# Altium footprint library Connector_PinSocket_2.00mm.PcbLib: 278 footprints (part 13 of 18)
Each footprint in its own frame and in the unit in brackets; x right, y up, seen from the top. Pads: shape width x height; smd on the part's side, far side on the other; paste and mask are expansions set on the pad; w line width, h text height; cw(c..) or ccw(c..) is an arc to the next point about the centre after c.
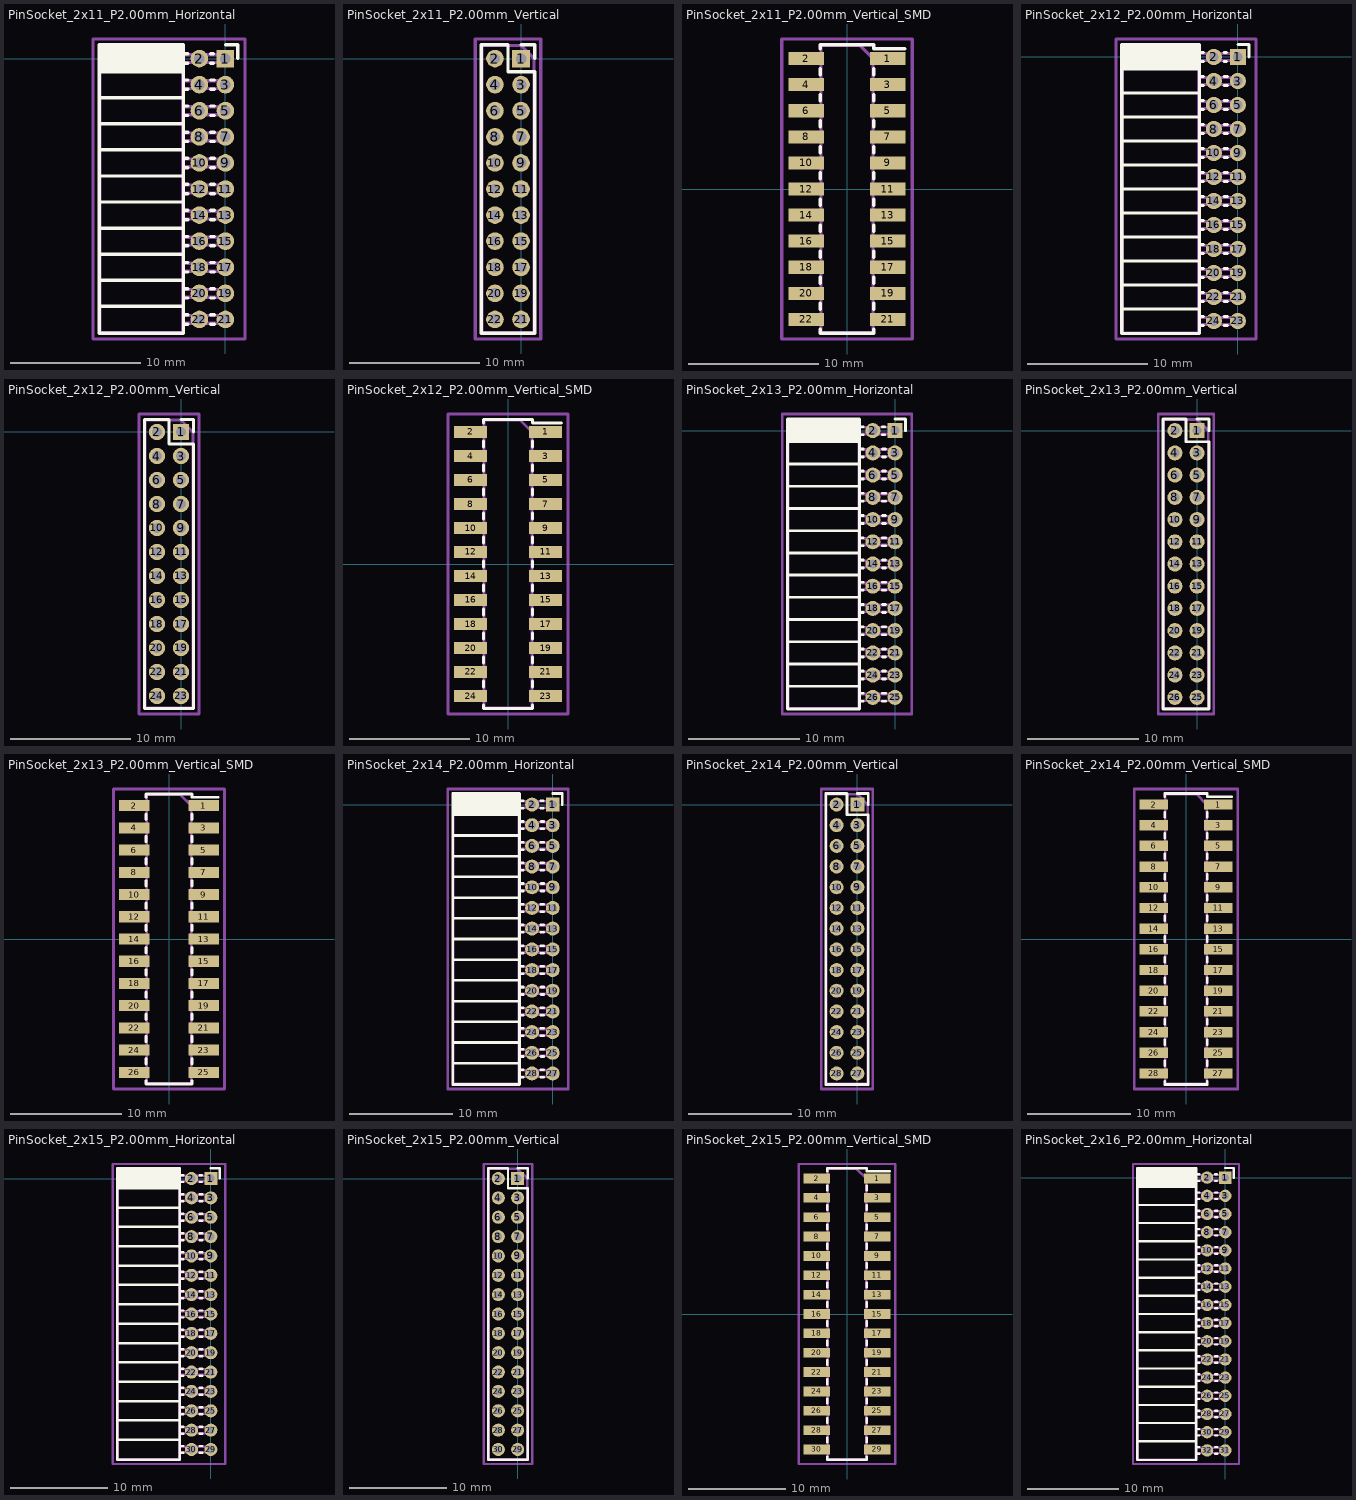
[diagram p12: the footprints below, top view; thin cyan lines are the x and y axes]

## PinSocket_2x11_P2.00mm_Horizontal [mm]
pads (22):
  rect 1.35x1.35 hole 0.8: 1(0,0)
  round 1.35 hole 0.8: 2(-2,0) 3(0,-2) 4(-2,-2) 5(0,-4) 6(-2,-4) 7(0,-6) 8(-2,-6) 9(0,-8) 10(-2,-8) 11(0,-10) 12(-2,-10) 13(0,-12) 14(-2,-12) 15(0,-14) 16(-2,-14) 17(0,-16) 18(-2,-16) 19(0,-18) 20(-2,-18) 21(0,-20) 22(-2,-20)
F.SilkS:
  lines w0.254: -9.68,-19 -3.21,-19 ; -9.68,-17 -3.21,-17 ; -9.68,-15 -3.21,-15 ; -9.68,-13 -3.21,-13 ; -9.68,-11 -3.21,-11 ; -9.68,-9 -3.21,-9 ; -9.68,-7 -3.21,-7 ; -9.68,-5 -3.21,-5 ; -9.68,-3 -3.21,-3 ; -9.68,-1 -3.21,-1 ; -9.68,-0.886 -3.21,-0.886 ; -9.68,-0.772 -3.21,-0.772 ; -9.68,-0.658 -3.21,-0.658 ; -9.68,-0.544 -3.21,-0.544 ; -9.68,-0.429 -3.21,-0.429 ; -9.68,-0.315 -3.21,-0.315 ; -9.68,-0.201 -3.21,-0.201 ; -9.68,-0.087 -3.21,-0.087 ; -9.68,0.027 -3.21,0.027 ; -9.68,0.141 -3.21,0.141 ; -9.68,0.255 -3.21,0.255 ; -9.68,0.369 -3.21,0.369 ; -9.68,0.484 -3.21,0.484 ; -9.68,0.598 -3.21,0.598 ; -9.68,0.712 -3.21,0.712 ; -9.68,0.826 -3.21,0.826 ; -9.68,0.94 -3.21,0.94 ; -3.21,-20.36 -2.863,-20.36 ; -3.21,-19.64 -2.863,-19.64 ; -3.21,-18.36 -2.863,-18.36 ; -3.21,-17.64 -2.863,-17.64 ; -3.21,-16.36 -2.863,-16.36 ; -3.21,-15.64 -2.863,-15.64 ; -3.21,-14.36 -2.863,-14.36 ; -3.21,-13.64 -2.863,-13.64 ; -3.21,-12.36 -2.863,-12.36 ; -3.21,-11.64 -2.863,-11.64 ; -3.21,-10.36 -2.863,-10.36 ; -3.21,-9.64 -2.863,-9.64 ; -3.21,-8.36 -2.863,-8.36 ; -3.21,-7.64 -2.863,-7.64 ; -3.21,-6.36 -2.863,-6.36 ; -3.21,-5.64 -2.863,-5.64 ; -3.21,-4.36 -2.863,-4.36 ; -3.21,-3.64 -2.863,-3.64 ; -3.21,-2.36 -2.863,-2.36 ; -3.21,-1.64 -2.863,-1.64 ; -3.21,-0.36 -2.863,-0.36 ; -3.21,0.36 -2.863,0.36 ; -1.137,-20.36 -0.863,-20.36 ; -1.137,-19.64 -0.863,-19.64 ; -1.137,-18.36 -0.863,-18.36 ; -1.137,-17.64 -0.863,-17.64 ; -1.137,-16.36 -0.863,-16.36 ; -1.137,-15.64 -0.863,-15.64 ; -1.137,-14.36 -0.863,-14.36 ; -1.137,-13.64 -0.863,-13.64 ; -1.137,-12.36 -0.863,-12.36 ; -1.137,-11.64 -0.863,-11.64 ; -1.137,-10.36 -0.863,-10.36 ; -1.137,-9.64 -0.863,-9.64 ; -1.137,-8.36 -0.863,-8.36 ; -1.137,-7.64 -0.863,-7.64 ; -1.137,-6.36 -0.863,-6.36 ; -1.137,-5.64 -0.863,-5.64 ; -1.137,-4.36 -0.863,-4.36 ; -1.137,-3.64 -0.863,-3.64 ; -1.137,-2.36 -0.863,-2.36 ; -1.137,-1.64 -0.863,-1.64 ; -1.137,-0.36 -0.935,-0.36 ; -1.137,0.36 -0.935,0.36 ; 0,1.06 0.935,1.06 0.935,0 ; -9.68,-21.06 -3.21,-21.06 -3.21,1.06 -9.68,1.06 -9.68,-21.06
Top Assembly:
  lines w0.254: -3.27,-20.3 0,-20.3 0,-19.7 -3.27,-19.7 ; -3.27,-18.3 0,-18.3 0,-17.7 -3.27,-17.7 ; -3.27,-16.3 0,-16.3 0,-15.7 -3.27,-15.7 ; -3.27,-14.3 0,-14.3 0,-13.7 -3.27,-13.7 ; -3.27,-12.3 0,-12.3 0,-11.7 -3.27,-11.7 ; -3.27,-10.3 0,-10.3 0,-9.7 -3.27,-9.7 ; -3.27,-8.3 0,-8.3 0,-7.7 -3.27,-7.7 ; -3.27,-6.3 0,-6.3 0,-5.7 -3.27,-5.7 ; -3.27,-4.3 0,-4.3 0,-3.7 -3.27,-3.7 ; -3.27,-2.3 0,-2.3 0,-1.7 -3.27,-1.7 ; -3.27,-0.3 0,-0.3 0,0.3 -3.27,0.3 ; -3.27,0.3 -3.27,-21 -9.62,-21 -9.62,1 -3.97,1 -3.27,0.3
  text "'.Designator'" at -5.605,-14.047 h1
Top Courtyard:
  lines w0.254: -10.15,-21.5 1.5,-21.5 1.5,1.5 -10.15,1.5 -10.15,-21.5
Top Designator:
  text ".Designator" at -11.943,-10.508 h1.52

## PinSocket_2x11_P2.00mm_Vertical [mm]
pads (22):
  rect 1.35x1.35 hole 0.8: 1(0,0)
  round 1.35 hole 0.8: 2(-2,0) 3(0,-2) 4(-2,-2) 5(0,-4) 6(-2,-4) 7(0,-6) 8(-2,-6) 9(0,-8) 10(-2,-8) 11(0,-10) 12(-2,-10) 13(0,-12) 14(-2,-12) 15(0,-14) 16(-2,-14) 17(0,-16) 18(-2,-16) 19(0,-18) 20(-2,-18) 21(0,-20) 22(-2,-20)
F.SilkS:
  lines w0.254: 0,1.06 1.06,1.06 1.06,0 ; -3.06,-21.06 1.06,-21.06 1.06,-1 -1,-1 -1,1.06 -3.06,1.06 -3.06,-21.06
Top Assembly:
  lines w0.254: -3,-21 1,-21 1,0 0,1 -3,1 -3,-21
  text "'.Designator'" at -0.16,-14.047 h1
Top Courtyard:
  lines w0.254: -3.5,-21.5 1.5,-21.5 1.5,1.5 -3.5,1.5 -3.5,-21.5
Top Designator:
  text ".Designator" at -8.618,-10.508 h1.52

## PinSocket_2x11_P2.00mm_Vertical_SMD [mm]
pads (22):
  rect 2.75x1 smd: 1(3.125,10) 2(-3.125,10) 3(3.125,8) 4(-3.125,8) 5(3.125,6) 6(-3.125,6) 7(3.125,4) 8(-3.125,4) 9(3.125,2) 10(-3.125,2) 11(3.125,0) 12(-3.125,0) 13(3.125,-2) 14(-3.125,-2) 15(3.125,-4) 16(-3.125,-4) 17(3.125,-6) 18(-3.125,-6) 19(3.125,-8) 20(-3.125,-8) 21(3.125,-10) 22(-3.125,-10)
F.SilkS:
  lines w0.254: -2.06,-10.76 -2.06,-11.06 2.06,-11.06 2.06,-10.76 ; -2.06,-9.24 -2.06,-8.76 ; -2.06,-7.24 -2.06,-6.76 ; -2.06,-5.24 -2.06,-4.76 ; -2.06,-3.24 -2.06,-2.76 ; -2.06,-1.24 -2.06,-0.76 ; -2.06,0.76 -2.06,1.24 ; -2.06,2.76 -2.06,3.24 ; -2.06,4.76 -2.06,5.24 ; -2.06,6.76 -2.06,7.24 ; -2.06,8.76 -2.06,9.24 ; -2.06,10.76 -2.06,11.06 2.06,11.06 2.06,10.76 4.44,10.76 ; 2.06,-9.24 2.06,-8.76 ; 2.06,-7.24 2.06,-6.76 ; 2.06,-5.24 2.06,-4.76 ; 2.06,-3.24 2.06,-2.76 ; 2.06,-1.24 2.06,-0.76 ; 2.06,0.76 2.06,1.24 ; 2.06,2.76 2.06,3.24 ; 2.06,4.76 2.06,5.24 ; 2.06,6.76 2.06,7.24 ; 2.06,8.76 2.06,9.24
Top Assembly:
  lines w0.254: -2,-10.25 -3,-10.25 -3,-9.75 -2,-9.75 ; -2,-8.25 -3,-8.25 -3,-7.75 -2,-7.75 ; -2,-6.25 -3,-6.25 -3,-5.75 -2,-5.75 ; -2,-4.25 -3,-4.25 -3,-3.75 -2,-3.75 ; -2,-2.25 -3,-2.25 -3,-1.75 -2,-1.75 ; -2,-0.25 -3,-0.25 -3,0.25 -2,0.25 ; -2,1.75 -3,1.75 -3,2.25 -2,2.25 ; -2,3.75 -3,3.75 -3,4.25 -2,4.25 ; -2,5.75 -3,5.75 -3,6.25 -2,6.25 ; -2,7.75 -3,7.75 -3,8.25 -2,8.25 ; -2,9.75 -3,9.75 -3,10.25 -2,10.25 ; 2,-10.25 3,-10.25 3,-9.75 2,-9.75 ; 2,-8.25 3,-8.25 3,-7.75 2,-7.75 ; 2,-6.25 3,-6.25 3,-5.75 2,-5.75 ; 2,-4.25 3,-4.25 3,-3.75 2,-3.75 ; 2,-2.25 3,-2.25 3,-1.75 2,-1.75 ; 2,-0.25 3,-0.25 3,0.25 2,0.25 ; 2,1.75 3,1.75 3,2.25 2,2.25 ; 2,3.75 3,3.75 3,4.25 2,4.25 ; 2,5.75 3,5.75 3,6.25 2,6.25 ; 2,7.75 3,7.75 3,8.25 2,8.25 ; 2,9.75 3,9.75 3,10.25 2,10.25 ; -2,-11 2,-11 2,10 1,11 -2,11 -2,-11
  text "'.Designator'" at 0.84,-4.047 h1
Top Courtyard:
  lines w0.254: -5,-11.5 5,-11.5 5,11.5 -5,11.5 -5,-11.5
Top Designator:
  text ".Designator" at -7.618,-0.508 h1.52

## PinSocket_2x12_P2.00mm_Horizontal [mm]
pads (24):
  rect 1.35x1.35 hole 0.8: 1(0,0)
  round 1.35 hole 0.8: 2(-2,0) 3(0,-2) 4(-2,-2) 5(0,-4) 6(-2,-4) 7(0,-6) 8(-2,-6) 9(0,-8) 10(-2,-8) 11(0,-10) 12(-2,-10) 13(0,-12) 14(-2,-12) 15(0,-14) 16(-2,-14) 17(0,-16) 18(-2,-16) 19(0,-18) 20(-2,-18) 21(0,-20) 22(-2,-20) 23(0,-22) 24(-2,-22)
F.SilkS:
  lines w0.254: -9.68,-21 -3.21,-21 ; -9.68,-19 -3.21,-19 ; -9.68,-17 -3.21,-17 ; -9.68,-15 -3.21,-15 ; -9.68,-13 -3.21,-13 ; -9.68,-11 -3.21,-11 ; -9.68,-9 -3.21,-9 ; -9.68,-7 -3.21,-7 ; -9.68,-5 -3.21,-5 ; -9.68,-3 -3.21,-3 ; -9.68,-1 -3.21,-1 ; -9.68,-0.886 -3.21,-0.886 ; -9.68,-0.772 -3.21,-0.772 ; -9.68,-0.658 -3.21,-0.658 ; -9.68,-0.544 -3.21,-0.544 ; -9.68,-0.429 -3.21,-0.429 ; -9.68,-0.315 -3.21,-0.315 ; -9.68,-0.201 -3.21,-0.201 ; -9.68,-0.087 -3.21,-0.087 ; -9.68,0.027 -3.21,0.027 ; -9.68,0.141 -3.21,0.141 ; -9.68,0.255 -3.21,0.255 ; -9.68,0.369 -3.21,0.369 ; -9.68,0.484 -3.21,0.484 ; -9.68,0.598 -3.21,0.598 ; -9.68,0.712 -3.21,0.712 ; -9.68,0.826 -3.21,0.826 ; -9.68,0.94 -3.21,0.94 ; -3.21,-22.36 -2.863,-22.36 ; -3.21,-21.64 -2.863,-21.64 ; -3.21,-20.36 -2.863,-20.36 ; -3.21,-19.64 -2.863,-19.64 ; -3.21,-18.36 -2.863,-18.36 ; -3.21,-17.64 -2.863,-17.64 ; -3.21,-16.36 -2.863,-16.36 ; -3.21,-15.64 -2.863,-15.64 ; -3.21,-14.36 -2.863,-14.36 ; -3.21,-13.64 -2.863,-13.64 ; -3.21,-12.36 -2.863,-12.36 ; -3.21,-11.64 -2.863,-11.64 ; -3.21,-10.36 -2.863,-10.36 ; -3.21,-9.64 -2.863,-9.64 ; -3.21,-8.36 -2.863,-8.36 ; -3.21,-7.64 -2.863,-7.64 ; -3.21,-6.36 -2.863,-6.36 ; -3.21,-5.64 -2.863,-5.64 ; -3.21,-4.36 -2.863,-4.36 ; -3.21,-3.64 -2.863,-3.64 ; -3.21,-2.36 -2.863,-2.36 ; -3.21,-1.64 -2.863,-1.64 ; -3.21,-0.36 -2.863,-0.36 ; -3.21,0.36 -2.863,0.36 ; -1.137,-22.36 -0.863,-22.36 ; -1.137,-21.64 -0.863,-21.64 ; -1.137,-20.36 -0.863,-20.36 ; -1.137,-19.64 -0.863,-19.64 ; -1.137,-18.36 -0.863,-18.36 ; -1.137,-17.64 -0.863,-17.64 ; -1.137,-16.36 -0.863,-16.36 ; -1.137,-15.64 -0.863,-15.64 ; -1.137,-14.36 -0.863,-14.36 ; -1.137,-13.64 -0.863,-13.64 ; -1.137,-12.36 -0.863,-12.36 ; -1.137,-11.64 -0.863,-11.64 ; -1.137,-10.36 -0.863,-10.36 ; -1.137,-9.64 -0.863,-9.64 ; -1.137,-8.36 -0.863,-8.36 ; -1.137,-7.64 -0.863,-7.64 ; -1.137,-6.36 -0.863,-6.36 ; -1.137,-5.64 -0.863,-5.64 ; -1.137,-4.36 -0.863,-4.36 ; -1.137,-3.64 -0.863,-3.64 ; -1.137,-2.36 -0.863,-2.36 ; -1.137,-1.64 -0.863,-1.64 ; -1.137,-0.36 -0.935,-0.36 ; -1.137,0.36 -0.935,0.36 ; 0,1.06 0.935,1.06 0.935,0 ; -9.68,-23.06 -3.21,-23.06 -3.21,1.06 -9.68,1.06 -9.68,-23.06
Top Assembly:
  lines w0.254: -3.27,-22.3 0,-22.3 0,-21.7 -3.27,-21.7 ; -3.27,-20.3 0,-20.3 0,-19.7 -3.27,-19.7 ; -3.27,-18.3 0,-18.3 0,-17.7 -3.27,-17.7 ; -3.27,-16.3 0,-16.3 0,-15.7 -3.27,-15.7 ; -3.27,-14.3 0,-14.3 0,-13.7 -3.27,-13.7 ; -3.27,-12.3 0,-12.3 0,-11.7 -3.27,-11.7 ; -3.27,-10.3 0,-10.3 0,-9.7 -3.27,-9.7 ; -3.27,-8.3 0,-8.3 0,-7.7 -3.27,-7.7 ; -3.27,-6.3 0,-6.3 0,-5.7 -3.27,-5.7 ; -3.27,-4.3 0,-4.3 0,-3.7 -3.27,-3.7 ; -3.27,-2.3 0,-2.3 0,-1.7 -3.27,-1.7 ; -3.27,-0.3 0,-0.3 0,0.3 -3.27,0.3 ; -3.27,0.3 -3.27,-23 -9.62,-23 -9.62,1 -3.97,1 -3.27,0.3
  text "'.Designator'" at -5.605,-15.047 h1
Top Courtyard:
  lines w0.254: -10.15,-23.5 1.5,-23.5 1.5,1.5 -10.15,1.5 -10.15,-23.5
Top Designator:
  text ".Designator" at -11.943,-11.508 h1.52

## PinSocket_2x12_P2.00mm_Vertical [mm]
pads (24):
  rect 1.35x1.35 hole 0.8: 1(0,0)
  round 1.35 hole 0.8: 2(-2,0) 3(0,-2) 4(-2,-2) 5(0,-4) 6(-2,-4) 7(0,-6) 8(-2,-6) 9(0,-8) 10(-2,-8) 11(0,-10) 12(-2,-10) 13(0,-12) 14(-2,-12) 15(0,-14) 16(-2,-14) 17(0,-16) 18(-2,-16) 19(0,-18) 20(-2,-18) 21(0,-20) 22(-2,-20) 23(0,-22) 24(-2,-22)
F.SilkS:
  lines w0.254: 0,1.06 1.06,1.06 1.06,0 ; -3.06,-23.06 1.06,-23.06 1.06,-1 -1,-1 -1,1.06 -3.06,1.06 -3.06,-23.06
Top Assembly:
  lines w0.254: -3,-23 1,-23 1,0 0,1 -3,1 -3,-23
  text "'.Designator'" at -0.16,-15.047 h1
Top Courtyard:
  lines w0.254: -3.5,-23.5 1.5,-23.5 1.5,1.5 -3.5,1.5 -3.5,-23.5
Top Designator:
  text ".Designator" at -8.618,-11.508 h1.52

## PinSocket_2x12_P2.00mm_Vertical_SMD [mm]
pads (24):
  rect 2.75x1 smd: 1(3.125,11) 2(-3.125,11) 3(3.125,9) 4(-3.125,9) 5(3.125,7) 6(-3.125,7) 7(3.125,5) 8(-3.125,5) 9(3.125,3) 10(-3.125,3) 11(3.125,1) 12(-3.125,1) 13(3.125,-1) 14(-3.125,-1) 15(3.125,-3) 16(-3.125,-3) 17(3.125,-5) 18(-3.125,-5) 19(3.125,-7) 20(-3.125,-7) 21(3.125,-9) 22(-3.125,-9) 23(3.125,-11) 24(-3.125,-11)
F.SilkS:
  lines w0.254: -2.06,-11.76 -2.06,-12.06 2.06,-12.06 2.06,-11.76 ; -2.06,-10.24 -2.06,-9.76 ; -2.06,-8.24 -2.06,-7.76 ; -2.06,-6.24 -2.06,-5.76 ; -2.06,-4.24 -2.06,-3.76 ; -2.06,-2.24 -2.06,-1.76 ; -2.06,-0.24 -2.06,0.24 ; -2.06,1.76 -2.06,2.24 ; -2.06,3.76 -2.06,4.24 ; -2.06,5.76 -2.06,6.24 ; -2.06,7.76 -2.06,8.24 ; -2.06,9.76 -2.06,10.24 ; -2.06,11.76 -2.06,12.06 2.06,12.06 2.06,11.76 4.44,11.76 ; 2.06,-10.24 2.06,-9.76 ; 2.06,-8.24 2.06,-7.76 ; 2.06,-6.24 2.06,-5.76 ; 2.06,-4.24 2.06,-3.76 ; 2.06,-2.24 2.06,-1.76 ; 2.06,-0.24 2.06,0.24 ; 2.06,1.76 2.06,2.24 ; 2.06,3.76 2.06,4.24 ; 2.06,5.76 2.06,6.24 ; 2.06,7.76 2.06,8.24 ; 2.06,9.76 2.06,10.24
Top Assembly:
  lines w0.254: -2,-11.25 -3,-11.25 -3,-10.75 -2,-10.75 ; -2,-9.25 -3,-9.25 -3,-8.75 -2,-8.75 ; -2,-7.25 -3,-7.25 -3,-6.75 -2,-6.75 ; -2,-5.25 -3,-5.25 -3,-4.75 -2,-4.75 ; -2,-3.25 -3,-3.25 -3,-2.75 -2,-2.75 ; -2,-1.25 -3,-1.25 -3,-0.75 -2,-0.75 ; -2,0.75 -3,0.75 -3,1.25 -2,1.25 ; -2,2.75 -3,2.75 -3,3.25 -2,3.25 ; -2,4.75 -3,4.75 -3,5.25 -2,5.25 ; -2,6.75 -3,6.75 -3,7.25 -2,7.25 ; -2,8.75 -3,8.75 -3,9.25 -2,9.25 ; -2,10.75 -3,10.75 -3,11.25 -2,11.25 ; 2,-11.25 3,-11.25 3,-10.75 2,-10.75 ; 2,-9.25 3,-9.25 3,-8.75 2,-8.75 ; 2,-7.25 3,-7.25 3,-6.75 2,-6.75 ; 2,-5.25 3,-5.25 3,-4.75 2,-4.75 ; 2,-3.25 3,-3.25 3,-2.75 2,-2.75 ; 2,-1.25 3,-1.25 3,-0.75 2,-0.75 ; 2,0.75 3,0.75 3,1.25 2,1.25 ; 2,2.75 3,2.75 3,3.25 2,3.25 ; 2,4.75 3,4.75 3,5.25 2,5.25 ; 2,6.75 3,6.75 3,7.25 2,7.25 ; 2,8.75 3,8.75 3,9.25 2,9.25 ; 2,10.75 3,10.75 3,11.25 2,11.25 ; -2,-12 2,-12 2,11 1,12 -2,12 -2,-12
  text "'.Designator'" at 0.84,-4.047 h1
Top Courtyard:
  lines w0.254: -5,-12.5 5,-12.5 5,12.5 -5,12.5 -5,-12.5
Top Designator:
  text ".Designator" at -7.618,-0.508 h1.52

## PinSocket_2x13_P2.00mm_Horizontal [mm]
pads (26):
  rect 1.35x1.35 hole 0.8: 1(0,0)
  round 1.35 hole 0.8: 2(-2,0) 3(0,-2) 4(-2,-2) 5(0,-4) 6(-2,-4) 7(0,-6) 8(-2,-6) 9(0,-8) 10(-2,-8) 11(0,-10) 12(-2,-10) 13(0,-12) 14(-2,-12) 15(0,-14) 16(-2,-14) 17(0,-16) 18(-2,-16) 19(0,-18) 20(-2,-18) 21(0,-20) 22(-2,-20) 23(0,-22) 24(-2,-22) 25(0,-24) 26(-2,-24)
F.SilkS:
  lines w0.254: -9.68,-23 -3.21,-23 ; -9.68,-21 -3.21,-21 ; -9.68,-19 -3.21,-19 ; -9.68,-17 -3.21,-17 ; -9.68,-15 -3.21,-15 ; -9.68,-13 -3.21,-13 ; -9.68,-11 -3.21,-11 ; -9.68,-9 -3.21,-9 ; -9.68,-7 -3.21,-7 ; -9.68,-5 -3.21,-5 ; -9.68,-3 -3.21,-3 ; -9.68,-1 -3.21,-1 ; -9.68,-0.886 -3.21,-0.886 ; -9.68,-0.772 -3.21,-0.772 ; -9.68,-0.658 -3.21,-0.658 ; -9.68,-0.544 -3.21,-0.544 ; -9.68,-0.429 -3.21,-0.429 ; -9.68,-0.315 -3.21,-0.315 ; -9.68,-0.201 -3.21,-0.201 ; -9.68,-0.087 -3.21,-0.087 ; -9.68,0.027 -3.21,0.027 ; -9.68,0.141 -3.21,0.141 ; -9.68,0.255 -3.21,0.255 ; -9.68,0.369 -3.21,0.369 ; -9.68,0.484 -3.21,0.484 ; -9.68,0.598 -3.21,0.598 ; -9.68,0.712 -3.21,0.712 ; -9.68,0.826 -3.21,0.826 ; -9.68,0.94 -3.21,0.94 ; -3.21,-24.36 -2.863,-24.36 ; -3.21,-23.64 -2.863,-23.64 ; -3.21,-22.36 -2.863,-22.36 ; -3.21,-21.64 -2.863,-21.64 ; -3.21,-20.36 -2.863,-20.36 ; -3.21,-19.64 -2.863,-19.64 ; -3.21,-18.36 -2.863,-18.36 ; -3.21,-17.64 -2.863,-17.64 ; -3.21,-16.36 -2.863,-16.36 ; -3.21,-15.64 -2.863,-15.64 ; -3.21,-14.36 -2.863,-14.36 ; -3.21,-13.64 -2.863,-13.64 ; -3.21,-12.36 -2.863,-12.36 ; -3.21,-11.64 -2.863,-11.64 ; -3.21,-10.36 -2.863,-10.36 ; -3.21,-9.64 -2.863,-9.64 ; -3.21,-8.36 -2.863,-8.36 ; -3.21,-7.64 -2.863,-7.64 ; -3.21,-6.36 -2.863,-6.36 ; -3.21,-5.64 -2.863,-5.64 ; -3.21,-4.36 -2.863,-4.36 ; -3.21,-3.64 -2.863,-3.64 ; -3.21,-2.36 -2.863,-2.36 ; -3.21,-1.64 -2.863,-1.64 ; -3.21,-0.36 -2.863,-0.36 ; -3.21,0.36 -2.863,0.36 ; -1.137,-24.36 -0.863,-24.36 ; -1.137,-23.64 -0.863,-23.64 ; -1.137,-22.36 -0.863,-22.36 ; -1.137,-21.64 -0.863,-21.64 ; -1.137,-20.36 -0.863,-20.36 ; -1.137,-19.64 -0.863,-19.64 ; -1.137,-18.36 -0.863,-18.36 ; -1.137,-17.64 -0.863,-17.64 ; -1.137,-16.36 -0.863,-16.36 ; -1.137,-15.64 -0.863,-15.64 ; -1.137,-14.36 -0.863,-14.36 ; -1.137,-13.64 -0.863,-13.64 ; -1.137,-12.36 -0.863,-12.36 ; -1.137,-11.64 -0.863,-11.64 ; -1.137,-10.36 -0.863,-10.36 ; -1.137,-9.64 -0.863,-9.64 ; -1.137,-8.36 -0.863,-8.36 ; -1.137,-7.64 -0.863,-7.64 ; -1.137,-6.36 -0.863,-6.36 ; -1.137,-5.64 -0.863,-5.64 ; -1.137,-4.36 -0.863,-4.36 ; -1.137,-3.64 -0.863,-3.64 ; -1.137,-2.36 -0.863,-2.36 ; -1.137,-1.64 -0.863,-1.64 ; -1.137,-0.36 -0.935,-0.36 ; -1.137,0.36 -0.935,0.36 ; 0,1.06 0.935,1.06 0.935,0 ; -9.68,-25.06 -3.21,-25.06 -3.21,1.06 -9.68,1.06 -9.68,-25.06
Top Assembly:
  lines w0.254: -3.27,-24.3 0,-24.3 0,-23.7 -3.27,-23.7 ; -3.27,-22.3 0,-22.3 0,-21.7 -3.27,-21.7 ; -3.27,-20.3 0,-20.3 0,-19.7 -3.27,-19.7 ; -3.27,-18.3 0,-18.3 0,-17.7 -3.27,-17.7 ; -3.27,-16.3 0,-16.3 0,-15.7 -3.27,-15.7 ; -3.27,-14.3 0,-14.3 0,-13.7 -3.27,-13.7 ; -3.27,-12.3 0,-12.3 0,-11.7 -3.27,-11.7 ; -3.27,-10.3 0,-10.3 0,-9.7 -3.27,-9.7 ; -3.27,-8.3 0,-8.3 0,-7.7 -3.27,-7.7 ; -3.27,-6.3 0,-6.3 0,-5.7 -3.27,-5.7 ; -3.27,-4.3 0,-4.3 0,-3.7 -3.27,-3.7 ; -3.27,-2.3 0,-2.3 0,-1.7 -3.27,-1.7 ; -3.27,-0.3 0,-0.3 0,0.3 -3.27,0.3 ; -3.27,0.3 -3.27,-25 -9.62,-25 -9.62,1 -3.97,1 -3.27,0.3
  text "'.Designator'" at -5.605,-16.047 h1
Top Courtyard:
  lines w0.254: -10.15,-25.5 1.5,-25.5 1.5,1.5 -10.15,1.5 -10.15,-25.5
Top Designator:
  text ".Designator" at -11.943,-12.508 h1.52

## PinSocket_2x13_P2.00mm_Vertical [mm]
pads (26):
  rect 1.35x1.35 hole 0.8: 1(0,0)
  round 1.35 hole 0.8: 2(-2,0) 3(0,-2) 4(-2,-2) 5(0,-4) 6(-2,-4) 7(0,-6) 8(-2,-6) 9(0,-8) 10(-2,-8) 11(0,-10) 12(-2,-10) 13(0,-12) 14(-2,-12) 15(0,-14) 16(-2,-14) 17(0,-16) 18(-2,-16) 19(0,-18) 20(-2,-18) 21(0,-20) 22(-2,-20) 23(0,-22) 24(-2,-22) 25(0,-24) 26(-2,-24)
F.SilkS:
  lines w0.254: 0,1.06 1.06,1.06 1.06,0 ; -3.06,-25.06 1.06,-25.06 1.06,-1 -1,-1 -1,1.06 -3.06,1.06 -3.06,-25.06
Top Assembly:
  lines w0.254: -3,-25 1,-25 1,0 0,1 -3,1 -3,-25
  text "'.Designator'" at -0.16,-16.047 h1
Top Courtyard:
  lines w0.254: -3.5,-25.5 1.5,-25.5 1.5,1.5 -3.5,1.5 -3.5,-25.5
Top Designator:
  text ".Designator" at -8.618,-12.508 h1.52

## PinSocket_2x13_P2.00mm_Vertical_SMD [mm]
pads (26):
  rect 2.75x1 smd: 1(3.125,12) 2(-3.125,12) 3(3.125,10) 4(-3.125,10) 5(3.125,8) 6(-3.125,8) 7(3.125,6) 8(-3.125,6) 9(3.125,4) 10(-3.125,4) 11(3.125,2) 12(-3.125,2) 13(3.125,0) 14(-3.125,0) 15(3.125,-2) 16(-3.125,-2) 17(3.125,-4) 18(-3.125,-4) 19(3.125,-6) 20(-3.125,-6) 21(3.125,-8) 22(-3.125,-8) 23(3.125,-10) 24(-3.125,-10) 25(3.125,-12) 26(-3.125,-12)
F.SilkS:
  lines w0.254: -2.06,-12.76 -2.06,-13.06 2.06,-13.06 2.06,-12.76 ; -2.06,-11.24 -2.06,-10.76 ; -2.06,-9.24 -2.06,-8.76 ; -2.06,-7.24 -2.06,-6.76 ; -2.06,-5.24 -2.06,-4.76 ; -2.06,-3.24 -2.06,-2.76 ; -2.06,-1.24 -2.06,-0.76 ; -2.06,0.76 -2.06,1.24 ; -2.06,2.76 -2.06,3.24 ; -2.06,4.76 -2.06,5.24 ; -2.06,6.76 -2.06,7.24 ; -2.06,8.76 -2.06,9.24 ; -2.06,10.76 -2.06,11.24 ; -2.06,12.76 -2.06,13.06 2.06,13.06 2.06,12.76 4.44,12.76 ; 2.06,-11.24 2.06,-10.76 ; 2.06,-9.24 2.06,-8.76 ; 2.06,-7.24 2.06,-6.76 ; 2.06,-5.24 2.06,-4.76 ; 2.06,-3.24 2.06,-2.76 ; 2.06,-1.24 2.06,-0.76 ; 2.06,0.76 2.06,1.24 ; 2.06,2.76 2.06,3.24 ; 2.06,4.76 2.06,5.24 ; 2.06,6.76 2.06,7.24 ; 2.06,8.76 2.06,9.24 ; 2.06,10.76 2.06,11.24
Top Assembly:
  lines w0.254: -2,-12.25 -3,-12.25 -3,-11.75 -2,-11.75 ; -2,-10.25 -3,-10.25 -3,-9.75 -2,-9.75 ; -2,-8.25 -3,-8.25 -3,-7.75 -2,-7.75 ; -2,-6.25 -3,-6.25 -3,-5.75 -2,-5.75 ; -2,-4.25 -3,-4.25 -3,-3.75 -2,-3.75 ; -2,-2.25 -3,-2.25 -3,-1.75 -2,-1.75 ; -2,-0.25 -3,-0.25 -3,0.25 -2,0.25 ; -2,1.75 -3,1.75 -3,2.25 -2,2.25 ; -2,3.75 -3,3.75 -3,4.25 -2,4.25 ; -2,5.75 -3,5.75 -3,6.25 -2,6.25 ; -2,7.75 -3,7.75 -3,8.25 -2,8.25 ; -2,9.75 -3,9.75 -3,10.25 -2,10.25 ; -2,11.75 -3,11.75 -3,12.25 -2,12.25 ; 2,-12.25 3,-12.25 3,-11.75 2,-11.75 ; 2,-10.25 3,-10.25 3,-9.75 2,-9.75 ; 2,-8.25 3,-8.25 3,-7.75 2,-7.75 ; 2,-6.25 3,-6.25 3,-5.75 2,-5.75 ; 2,-4.25 3,-4.25 3,-3.75 2,-3.75 ; 2,-2.25 3,-2.25 3,-1.75 2,-1.75 ; 2,-0.25 3,-0.25 3,0.25 2,0.25 ; 2,1.75 3,1.75 3,2.25 2,2.25 ; 2,3.75 3,3.75 3,4.25 2,4.25 ; 2,5.75 3,5.75 3,6.25 2,6.25 ; 2,7.75 3,7.75 3,8.25 2,8.25 ; 2,9.75 3,9.75 3,10.25 2,10.25 ; 2,11.75 3,11.75 3,12.25 2,12.25 ; -2,-13 2,-13 2,12 1,13 -2,13 -2,-13
  text "'.Designator'" at 0.84,-4.047 h1
Top Courtyard:
  lines w0.254: -5,-13.5 5,-13.5 5,13.5 -5,13.5 -5,-13.5
Top Designator:
  text ".Designator" at -7.618,-0.508 h1.52

## PinSocket_2x14_P2.00mm_Horizontal [mm]
pads (28):
  rect 1.35x1.35 hole 0.8: 1(0,0)
  round 1.35 hole 0.8: 2(-2,0) 3(0,-2) 4(-2,-2) 5(0,-4) 6(-2,-4) 7(0,-6) 8(-2,-6) 9(0,-8) 10(-2,-8) 11(0,-10) 12(-2,-10) 13(0,-12) 14(-2,-12) 15(0,-14) 16(-2,-14) 17(0,-16) 18(-2,-16) 19(0,-18) 20(-2,-18) 21(0,-20) 22(-2,-20) 23(0,-22) 24(-2,-22) 25(0,-24) 26(-2,-24) 27(0,-26) 28(-2,-26)
F.SilkS:
  lines w0.254: -9.68,-25 -3.21,-25 ; -9.68,-23 -3.21,-23 ; -9.68,-21 -3.21,-21 ; -9.68,-19 -3.21,-19 ; -9.68,-17 -3.21,-17 ; -9.68,-15 -3.21,-15 ; -9.68,-13 -3.21,-13 ; -9.68,-11 -3.21,-11 ; -9.68,-9 -3.21,-9 ; -9.68,-7 -3.21,-7 ; -9.68,-5 -3.21,-5 ; -9.68,-3 -3.21,-3 ; -9.68,-1 -3.21,-1 ; -9.68,-0.886 -3.21,-0.886 ; -9.68,-0.772 -3.21,-0.772 ; -9.68,-0.658 -3.21,-0.658 ; -9.68,-0.544 -3.21,-0.544 ; -9.68,-0.429 -3.21,-0.429 ; -9.68,-0.315 -3.21,-0.315 ; -9.68,-0.201 -3.21,-0.201 ; -9.68,-0.087 -3.21,-0.087 ; -9.68,0.027 -3.21,0.027 ; -9.68,0.141 -3.21,0.141 ; -9.68,0.255 -3.21,0.255 ; -9.68,0.369 -3.21,0.369 ; -9.68,0.484 -3.21,0.484 ; -9.68,0.598 -3.21,0.598 ; -9.68,0.712 -3.21,0.712 ; -9.68,0.826 -3.21,0.826 ; -9.68,0.94 -3.21,0.94 ; -3.21,-26.36 -2.863,-26.36 ; -3.21,-25.64 -2.863,-25.64 ; -3.21,-24.36 -2.863,-24.36 ; -3.21,-23.64 -2.863,-23.64 ; -3.21,-22.36 -2.863,-22.36 ; -3.21,-21.64 -2.863,-21.64 ; -3.21,-20.36 -2.863,-20.36 ; -3.21,-19.64 -2.863,-19.64 ; -3.21,-18.36 -2.863,-18.36 ; -3.21,-17.64 -2.863,-17.64 ; -3.21,-16.36 -2.863,-16.36 ; -3.21,-15.64 -2.863,-15.64 ; -3.21,-14.36 -2.863,-14.36 ; -3.21,-13.64 -2.863,-13.64 ; -3.21,-12.36 -2.863,-12.36 ; -3.21,-11.64 -2.863,-11.64 ; -3.21,-10.36 -2.863,-10.36 ; -3.21,-9.64 -2.863,-9.64 ; -3.21,-8.36 -2.863,-8.36 ; -3.21,-7.64 -2.863,-7.64 ; -3.21,-6.36 -2.863,-6.36 ; -3.21,-5.64 -2.863,-5.64 ; -3.21,-4.36 -2.863,-4.36 ; -3.21,-3.64 -2.863,-3.64 ; -3.21,-2.36 -2.863,-2.36 ; -3.21,-1.64 -2.863,-1.64 ; -3.21,-0.36 -2.863,-0.36 ; -3.21,0.36 -2.863,0.36 ; -1.137,-26.36 -0.863,-26.36 ; -1.137,-25.64 -0.863,-25.64 ; -1.137,-24.36 -0.863,-24.36 ; -1.137,-23.64 -0.863,-23.64 ; -1.137,-22.36 -0.863,-22.36 ; -1.137,-21.64 -0.863,-21.64 ; -1.137,-20.36 -0.863,-20.36 ; -1.137,-19.64 -0.863,-19.64 ; -1.137,-18.36 -0.863,-18.36 ; -1.137,-17.64 -0.863,-17.64 ; -1.137,-16.36 -0.863,-16.36 ; -1.137,-15.64 -0.863,-15.64 ; -1.137,-14.36 -0.863,-14.36 ; -1.137,-13.64 -0.863,-13.64 ; -1.137,-12.36 -0.863,-12.36 ; -1.137,-11.64 -0.863,-11.64 ; -1.137,-10.36 -0.863,-10.36 ; -1.137,-9.64 -0.863,-9.64 ; -1.137,-8.36 -0.863,-8.36 ; -1.137,-7.64 -0.863,-7.64 ; -1.137,-6.36 -0.863,-6.36 ; -1.137,-5.64 -0.863,-5.64 ; -1.137,-4.36 -0.863,-4.36 ; -1.137,-3.64 -0.863,-3.64 ; -1.137,-2.36 -0.863,-2.36 ; -1.137,-1.64 -0.863,-1.64 ; -1.137,-0.36 -0.935,-0.36 ; -1.137,0.36 -0.935,0.36 ; 0,1.06 0.935,1.06 0.935,0 ; -9.68,-27.06 -3.21,-27.06 -3.21,1.06 -9.68,1.06 -9.68,-27.06
Top Assembly:
  lines w0.254: -3.27,-26.3 0,-26.3 0,-25.7 -3.27,-25.7 ; -3.27,-24.3 0,-24.3 0,-23.7 -3.27,-23.7 ; -3.27,-22.3 0,-22.3 0,-21.7 -3.27,-21.7 ; -3.27,-20.3 0,-20.3 0,-19.7 -3.27,-19.7 ; -3.27,-18.3 0,-18.3 0,-17.7 -3.27,-17.7 ; -3.27,-16.3 0,-16.3 0,-15.7 -3.27,-15.7 ; -3.27,-14.3 0,-14.3 0,-13.7 -3.27,-13.7 ; -3.27,-12.3 0,-12.3 0,-11.7 -3.27,-11.7 ; -3.27,-10.3 0,-10.3 0,-9.7 -3.27,-9.7 ; -3.27,-8.3 0,-8.3 0,-7.7 -3.27,-7.7 ; -3.27,-6.3 0,-6.3 0,-5.7 -3.27,-5.7 ; -3.27,-4.3 0,-4.3 0,-3.7 -3.27,-3.7 ; -3.27,-2.3 0,-2.3 0,-1.7 -3.27,-1.7 ; -3.27,-0.3 0,-0.3 0,0.3 -3.27,0.3 ; -3.27,0.3 -3.27,-27 -9.62,-27 -9.62,1 -3.97,1 -3.27,0.3
  text "'.Designator'" at -5.605,-17.047 h1
Top Courtyard:
  lines w0.254: -10.15,-27.5 1.5,-27.5 1.5,1.5 -10.15,1.5 -10.15,-27.5
Top Designator:
  text ".Designator" at -11.943,-13.508 h1.52

## PinSocket_2x14_P2.00mm_Vertical [mm]
pads (28):
  rect 1.35x1.35 hole 0.8: 1(0,0)
  round 1.35 hole 0.8: 2(-2,0) 3(0,-2) 4(-2,-2) 5(0,-4) 6(-2,-4) 7(0,-6) 8(-2,-6) 9(0,-8) 10(-2,-8) 11(0,-10) 12(-2,-10) 13(0,-12) 14(-2,-12) 15(0,-14) 16(-2,-14) 17(0,-16) 18(-2,-16) 19(0,-18) 20(-2,-18) 21(0,-20) 22(-2,-20) 23(0,-22) 24(-2,-22) 25(0,-24) 26(-2,-24) 27(0,-26) 28(-2,-26)
F.SilkS:
  lines w0.254: 0,1.06 1.06,1.06 1.06,0 ; -3.06,-27.06 1.06,-27.06 1.06,-1 -1,-1 -1,1.06 -3.06,1.06 -3.06,-27.06
Top Assembly:
  lines w0.254: -3,-27 1,-27 1,0 0,1 -3,1 -3,-27
  text "'.Designator'" at -0.16,-17.047 h1
Top Courtyard:
  lines w0.254: -3.5,-27.5 1.5,-27.5 1.5,1.5 -3.5,1.5 -3.5,-27.5
Top Designator:
  text ".Designator" at -8.618,-13.508 h1.52

## PinSocket_2x14_P2.00mm_Vertical_SMD [mm]
pads (28):
  rect 2.75x1 smd: 1(3.125,13) 2(-3.125,13) 3(3.125,11) 4(-3.125,11) 5(3.125,9) 6(-3.125,9) 7(3.125,7) 8(-3.125,7) 9(3.125,5) 10(-3.125,5) 11(3.125,3) 12(-3.125,3) 13(3.125,1) 14(-3.125,1) 15(3.125,-1) 16(-3.125,-1) 17(3.125,-3) 18(-3.125,-3) 19(3.125,-5) 20(-3.125,-5) 21(3.125,-7) 22(-3.125,-7) 23(3.125,-9) 24(-3.125,-9) 25(3.125,-11) 26(-3.125,-11) 27(3.125,-13) 28(-3.125,-13)
F.SilkS:
  lines w0.254: -2.06,-13.76 -2.06,-14.06 2.06,-14.06 2.06,-13.76 ; -2.06,-12.24 -2.06,-11.76 ; -2.06,-10.24 -2.06,-9.76 ; -2.06,-8.24 -2.06,-7.76 ; -2.06,-6.24 -2.06,-5.76 ; -2.06,-4.24 -2.06,-3.76 ; -2.06,-2.24 -2.06,-1.76 ; -2.06,-0.24 -2.06,0.24 ; -2.06,1.76 -2.06,2.24 ; -2.06,3.76 -2.06,4.24 ; -2.06,5.76 -2.06,6.24 ; -2.06,7.76 -2.06,8.24 ; -2.06,9.76 -2.06,10.24 ; -2.06,11.76 -2.06,12.24 ; -2.06,13.76 -2.06,14.06 2.06,14.06 2.06,13.76 4.44,13.76 ; 2.06,-12.24 2.06,-11.76 ; 2.06,-10.24 2.06,-9.76 ; 2.06,-8.24 2.06,-7.76 ; 2.06,-6.24 2.06,-5.76 ; 2.06,-4.24 2.06,-3.76 ; 2.06,-2.24 2.06,-1.76 ; 2.06,-0.24 2.06,0.24 ; 2.06,1.76 2.06,2.24 ; 2.06,3.76 2.06,4.24 ; 2.06,5.76 2.06,6.24 ; 2.06,7.76 2.06,8.24 ; 2.06,9.76 2.06,10.24 ; 2.06,11.76 2.06,12.24
Top Assembly:
  lines w0.254: -2,-13.25 -3,-13.25 -3,-12.75 -2,-12.75 ; -2,-11.25 -3,-11.25 -3,-10.75 -2,-10.75 ; -2,-9.25 -3,-9.25 -3,-8.75 -2,-8.75 ; -2,-7.25 -3,-7.25 -3,-6.75 -2,-6.75 ; -2,-5.25 -3,-5.25 -3,-4.75 -2,-4.75 ; -2,-3.25 -3,-3.25 -3,-2.75 -2,-2.75 ; -2,-1.25 -3,-1.25 -3,-0.75 -2,-0.75 ; -2,0.75 -3,0.75 -3,1.25 -2,1.25 ; -2,2.75 -3,2.75 -3,3.25 -2,3.25 ; -2,4.75 -3,4.75 -3,5.25 -2,5.25 ; -2,6.75 -3,6.75 -3,7.25 -2,7.25 ; -2,8.75 -3,8.75 -3,9.25 -2,9.25 ; -2,10.75 -3,10.75 -3,11.25 -2,11.25 ; -2,12.75 -3,12.75 -3,13.25 -2,13.25 ; 2,-13.25 3,-13.25 3,-12.75 2,-12.75 ; 2,-11.25 3,-11.25 3,-10.75 2,-10.75 ; 2,-9.25 3,-9.25 3,-8.75 2,-8.75 ; 2,-7.25 3,-7.25 3,-6.75 2,-6.75 ; 2,-5.25 3,-5.25 3,-4.75 2,-4.75 ; 2,-3.25 3,-3.25 3,-2.75 2,-2.75 ; 2,-1.25 3,-1.25 3,-0.75 2,-0.75 ; 2,0.75 3,0.75 3,1.25 2,1.25 ; 2,2.75 3,2.75 3,3.25 2,3.25 ; 2,4.75 3,4.75 3,5.25 2,5.25 ; 2,6.75 3,6.75 3,7.25 2,7.25 ; 2,8.75 3,8.75 3,9.25 2,9.25 ; 2,10.75 3,10.75 3,11.25 2,11.25 ; 2,12.75 3,12.75 3,13.25 2,13.25 ; -2,-14 2,-14 2,13 1,14 -2,14 -2,-14
  text "'.Designator'" at 0.84,-4.047 h1
Top Courtyard:
  lines w0.254: -5,-14.5 5,-14.5 5,14.5 -5,14.5 -5,-14.5
Top Designator:
  text ".Designator" at -7.618,-0.508 h1.52

## PinSocket_2x15_P2.00mm_Horizontal [mm]
pads (30):
  rect 1.35x1.35 hole 0.8: 1(0,0)
  round 1.35 hole 0.8: 2(-2,0) 3(0,-2) 4(-2,-2) 5(0,-4) 6(-2,-4) 7(0,-6) 8(-2,-6) 9(0,-8) 10(-2,-8) 11(0,-10) 12(-2,-10) 13(0,-12) 14(-2,-12) 15(0,-14) 16(-2,-14) 17(0,-16) 18(-2,-16) 19(0,-18) 20(-2,-18) 21(0,-20) 22(-2,-20) 23(0,-22) 24(-2,-22) 25(0,-24) 26(-2,-24) 27(0,-26) 28(-2,-26) 29(0,-28) 30(-2,-28)
F.SilkS:
  lines w0.254: -9.68,-27 -3.21,-27 ; -9.68,-25 -3.21,-25 ; -9.68,-23 -3.21,-23 ; -9.68,-21 -3.21,-21 ; -9.68,-19 -3.21,-19 ; -9.68,-17 -3.21,-17 ; -9.68,-15 -3.21,-15 ; -9.68,-13 -3.21,-13 ; -9.68,-11 -3.21,-11 ; -9.68,-9 -3.21,-9 ; -9.68,-7 -3.21,-7 ; -9.68,-5 -3.21,-5 ; -9.68,-3 -3.21,-3 ; -9.68,-1 -3.21,-1 ; -9.68,-0.886 -3.21,-0.886 ; -9.68,-0.772 -3.21,-0.772 ; -9.68,-0.658 -3.21,-0.658 ; -9.68,-0.544 -3.21,-0.544 ; -9.68,-0.429 -3.21,-0.429 ; -9.68,-0.315 -3.21,-0.315 ; -9.68,-0.201 -3.21,-0.201 ; -9.68,-0.087 -3.21,-0.087 ; -9.68,0.027 -3.21,0.027 ; -9.68,0.141 -3.21,0.141 ; -9.68,0.255 -3.21,0.255 ; -9.68,0.369 -3.21,0.369 ; -9.68,0.484 -3.21,0.484 ; -9.68,0.598 -3.21,0.598 ; -9.68,0.712 -3.21,0.712 ; -9.68,0.826 -3.21,0.826 ; -9.68,0.94 -3.21,0.94 ; -3.21,-28.36 -2.863,-28.36 ; -3.21,-27.64 -2.863,-27.64 ; -3.21,-26.36 -2.863,-26.36 ; -3.21,-25.64 -2.863,-25.64 ; -3.21,-24.36 -2.863,-24.36 ; -3.21,-23.64 -2.863,-23.64 ; -3.21,-22.36 -2.863,-22.36 ; -3.21,-21.64 -2.863,-21.64 ; -3.21,-20.36 -2.863,-20.36 ; -3.21,-19.64 -2.863,-19.64 ; -3.21,-18.36 -2.863,-18.36 ; -3.21,-17.64 -2.863,-17.64 ; -3.21,-16.36 -2.863,-16.36 ; -3.21,-15.64 -2.863,-15.64 ; -3.21,-14.36 -2.863,-14.36 ; -3.21,-13.64 -2.863,-13.64 ; -3.21,-12.36 -2.863,-12.36 ; -3.21,-11.64 -2.863,-11.64 ; -3.21,-10.36 -2.863,-10.36 ; -3.21,-9.64 -2.863,-9.64 ; -3.21,-8.36 -2.863,-8.36 ; -3.21,-7.64 -2.863,-7.64 ; -3.21,-6.36 -2.863,-6.36 ; -3.21,-5.64 -2.863,-5.64 ; -3.21,-4.36 -2.863,-4.36 ; -3.21,-3.64 -2.863,-3.64 ; -3.21,-2.36 -2.863,-2.36 ; -3.21,-1.64 -2.863,-1.64 ; -3.21,-0.36 -2.863,-0.36 ; -3.21,0.36 -2.863,0.36 ; -1.137,-28.36 -0.863,-28.36 ; -1.137,-27.64 -0.863,-27.64 ; -1.137,-26.36 -0.863,-26.36 ; -1.137,-25.64 -0.863,-25.64 ; -1.137,-24.36 -0.863,-24.36 ; -1.137,-23.64 -0.863,-23.64 ; -1.137,-22.36 -0.863,-22.36 ; -1.137,-21.64 -0.863,-21.64 ; -1.137,-20.36 -0.863,-20.36 ; -1.137,-19.64 -0.863,-19.64 ; -1.137,-18.36 -0.863,-18.36 ; -1.137,-17.64 -0.863,-17.64 ; -1.137,-16.36 -0.863,-16.36 ; -1.137,-15.64 -0.863,-15.64 ; -1.137,-14.36 -0.863,-14.36 ; -1.137,-13.64 -0.863,-13.64 ; -1.137,-12.36 -0.863,-12.36 ; -1.137,-11.64 -0.863,-11.64 ; -1.137,-10.36 -0.863,-10.36 ; -1.137,-9.64 -0.863,-9.64 ; -1.137,-8.36 -0.863,-8.36 ; -1.137,-7.64 -0.863,-7.64 ; -1.137,-6.36 -0.863,-6.36 ; -1.137,-5.64 -0.863,-5.64 ; -1.137,-4.36 -0.863,-4.36 ; -1.137,-3.64 -0.863,-3.64 ; -1.137,-2.36 -0.863,-2.36 ; -1.137,-1.64 -0.863,-1.64 ; -1.137,-0.36 -0.935,-0.36 ; -1.137,0.36 -0.935,0.36 ; 0,1.06 0.935,1.06 0.935,0 ; -9.68,-29.06 -3.21,-29.06 -3.21,1.06 -9.68,1.06 -9.68,-29.06
Top Assembly:
  lines w0.254: -3.27,-28.3 0,-28.3 0,-27.7 -3.27,-27.7 ; -3.27,-26.3 0,-26.3 0,-25.7 -3.27,-25.7 ; -3.27,-24.3 0,-24.3 0,-23.7 -3.27,-23.7 ; -3.27,-22.3 0,-22.3 0,-21.7 -3.27,-21.7 ; -3.27,-20.3 0,-20.3 0,-19.7 -3.27,-19.7 ; -3.27,-18.3 0,-18.3 0,-17.7 -3.27,-17.7 ; -3.27,-16.3 0,-16.3 0,-15.7 -3.27,-15.7 ; -3.27,-14.3 0,-14.3 0,-13.7 -3.27,-13.7 ; -3.27,-12.3 0,-12.3 0,-11.7 -3.27,-11.7 ; -3.27,-10.3 0,-10.3 0,-9.7 -3.27,-9.7 ; -3.27,-8.3 0,-8.3 0,-7.7 -3.27,-7.7 ; -3.27,-6.3 0,-6.3 0,-5.7 -3.27,-5.7 ; -3.27,-4.3 0,-4.3 0,-3.7 -3.27,-3.7 ; -3.27,-2.3 0,-2.3 0,-1.7 -3.27,-1.7 ; -3.27,-0.3 0,-0.3 0,0.3 -3.27,0.3 ; -3.27,0.3 -3.27,-29 -9.62,-29 -9.62,1 -3.97,1 -3.27,0.3
  text "'.Designator'" at -5.605,-18.047 h1
Top Courtyard:
  lines w0.254: -10.15,-29.5 1.5,-29.5 1.5,1.5 -10.15,1.5 -10.15,-29.5
Top Designator:
  text ".Designator" at -11.943,-14.508 h1.52

## PinSocket_2x15_P2.00mm_Vertical [mm]
pads (30):
  rect 1.35x1.35 hole 0.8: 1(0,0)
  round 1.35 hole 0.8: 2(-2,0) 3(0,-2) 4(-2,-2) 5(0,-4) 6(-2,-4) 7(0,-6) 8(-2,-6) 9(0,-8) 10(-2,-8) 11(0,-10) 12(-2,-10) 13(0,-12) 14(-2,-12) 15(0,-14) 16(-2,-14) 17(0,-16) 18(-2,-16) 19(0,-18) 20(-2,-18) 21(0,-20) 22(-2,-20) 23(0,-22) 24(-2,-22) 25(0,-24) 26(-2,-24) 27(0,-26) 28(-2,-26) 29(0,-28) 30(-2,-28)
F.SilkS:
  lines w0.254: 0,1.06 1.06,1.06 1.06,0 ; -3.06,-29.06 1.06,-29.06 1.06,-1 -1,-1 -1,1.06 -3.06,1.06 -3.06,-29.06
Top Assembly:
  lines w0.254: -3,-29 1,-29 1,0 0,1 -3,1 -3,-29
  text "'.Designator'" at -0.16,-18.047 h1
Top Courtyard:
  lines w0.254: -3.5,-29.5 1.5,-29.5 1.5,1.5 -3.5,1.5 -3.5,-29.5
Top Designator:
  text ".Designator" at -8.618,-14.508 h1.52

## PinSocket_2x15_P2.00mm_Vertical_SMD [mm]
pads (30):
  rect 2.75x1 smd: 1(3.125,14) 2(-3.125,14) 3(3.125,12) 4(-3.125,12) 5(3.125,10) 6(-3.125,10) 7(3.125,8) 8(-3.125,8) 9(3.125,6) 10(-3.125,6) 11(3.125,4) 12(-3.125,4) 13(3.125,2) 14(-3.125,2) 15(3.125,0) 16(-3.125,0) 17(3.125,-2) 18(-3.125,-2) 19(3.125,-4) 20(-3.125,-4) 21(3.125,-6) 22(-3.125,-6) 23(3.125,-8) 24(-3.125,-8) 25(3.125,-10) 26(-3.125,-10) 27(3.125,-12) 28(-3.125,-12) 29(3.125,-14) 30(-3.125,-14)
F.SilkS:
  lines w0.254: -2.06,-14.76 -2.06,-15.06 2.06,-15.06 2.06,-14.76 ; -2.06,-13.24 -2.06,-12.76 ; -2.06,-11.24 -2.06,-10.76 ; -2.06,-9.24 -2.06,-8.76 ; -2.06,-7.24 -2.06,-6.76 ; -2.06,-5.24 -2.06,-4.76 ; -2.06,-3.24 -2.06,-2.76 ; -2.06,-1.24 -2.06,-0.76 ; -2.06,0.76 -2.06,1.24 ; -2.06,2.76 -2.06,3.24 ; -2.06,4.76 -2.06,5.24 ; -2.06,6.76 -2.06,7.24 ; -2.06,8.76 -2.06,9.24 ; -2.06,10.76 -2.06,11.24 ; -2.06,12.76 -2.06,13.24 ; -2.06,14.76 -2.06,15.06 2.06,15.06 2.06,14.76 4.44,14.76 ; 2.06,-13.24 2.06,-12.76 ; 2.06,-11.24 2.06,-10.76 ; 2.06,-9.24 2.06,-8.76 ; 2.06,-7.24 2.06,-6.76 ; 2.06,-5.24 2.06,-4.76 ; 2.06,-3.24 2.06,-2.76 ; 2.06,-1.24 2.06,-0.76 ; 2.06,0.76 2.06,1.24 ; 2.06,2.76 2.06,3.24 ; 2.06,4.76 2.06,5.24 ; 2.06,6.76 2.06,7.24 ; 2.06,8.76 2.06,9.24 ; 2.06,10.76 2.06,11.24 ; 2.06,12.76 2.06,13.24
Top Assembly:
  lines w0.254: -2,-14.25 -3,-14.25 -3,-13.75 -2,-13.75 ; -2,-12.25 -3,-12.25 -3,-11.75 -2,-11.75 ; -2,-10.25 -3,-10.25 -3,-9.75 -2,-9.75 ; -2,-8.25 -3,-8.25 -3,-7.75 -2,-7.75 ; -2,-6.25 -3,-6.25 -3,-5.75 -2,-5.75 ; -2,-4.25 -3,-4.25 -3,-3.75 -2,-3.75 ; -2,-2.25 -3,-2.25 -3,-1.75 -2,-1.75 ; -2,-0.25 -3,-0.25 -3,0.25 -2,0.25 ; -2,1.75 -3,1.75 -3,2.25 -2,2.25 ; -2,3.75 -3,3.75 -3,4.25 -2,4.25 ; -2,5.75 -3,5.75 -3,6.25 -2,6.25 ; -2,7.75 -3,7.75 -3,8.25 -2,8.25 ; -2,9.75 -3,9.75 -3,10.25 -2,10.25 ; -2,11.75 -3,11.75 -3,12.25 -2,12.25 ; -2,13.75 -3,13.75 -3,14.25 -2,14.25 ; 2,-14.25 3,-14.25 3,-13.75 2,-13.75 ; 2,-12.25 3,-12.25 3,-11.75 2,-11.75 ; 2,-10.25 3,-10.25 3,-9.75 2,-9.75 ; 2,-8.25 3,-8.25 3,-7.75 2,-7.75 ; 2,-6.25 3,-6.25 3,-5.75 2,-5.75 ; 2,-4.25 3,-4.25 3,-3.75 2,-3.75 ; 2,-2.25 3,-2.25 3,-1.75 2,-1.75 ; 2,-0.25 3,-0.25 3,0.25 2,0.25 ; 2,1.75 3,1.75 3,2.25 2,2.25 ; 2,3.75 3,3.75 3,4.25 2,4.25 ; 2,5.75 3,5.75 3,6.25 2,6.25 ; 2,7.75 3,7.75 3,8.25 2,8.25 ; 2,9.75 3,9.75 3,10.25 2,10.25 ; 2,11.75 3,11.75 3,12.25 2,12.25 ; 2,13.75 3,13.75 3,14.25 2,14.25 ; -2,-15 2,-15 2,14 1,15 -2,15 -2,-15
  text "'.Designator'" at 0.84,-4.047 h1
Top Courtyard:
  lines w0.254: -5,-15.5 5,-15.5 5,15.5 -5,15.5 -5,-15.5
Top Designator:
  text ".Designator" at -7.618,-0.508 h1.52

## PinSocket_2x16_P2.00mm_Horizontal [mm]
pads (32):
  rect 1.35x1.35 hole 0.8: 1(0,0)
  round 1.35 hole 0.8: 2(-2,0) 3(0,-2) 4(-2,-2) 5(0,-4) 6(-2,-4) 7(0,-6) 8(-2,-6) 9(0,-8) 10(-2,-8) 11(0,-10) 12(-2,-10) 13(0,-12) 14(-2,-12) 15(0,-14) 16(-2,-14) 17(0,-16) 18(-2,-16) 19(0,-18) 20(-2,-18) 21(0,-20) 22(-2,-20) 23(0,-22) 24(-2,-22) 25(0,-24) 26(-2,-24) 27(0,-26) 28(-2,-26) 29(0,-28) 30(-2,-28) 31(0,-30) 32(-2,-30)
F.SilkS:
  lines w0.254: -9.68,-29 -3.21,-29 ; -9.68,-27 -3.21,-27 ; -9.68,-25 -3.21,-25 ; -9.68,-23 -3.21,-23 ; -9.68,-21 -3.21,-21 ; -9.68,-19 -3.21,-19 ; -9.68,-17 -3.21,-17 ; -9.68,-15 -3.21,-15 ; -9.68,-13 -3.21,-13 ; -9.68,-11 -3.21,-11 ; -9.68,-9 -3.21,-9 ; -9.68,-7 -3.21,-7 ; -9.68,-5 -3.21,-5 ; -9.68,-3 -3.21,-3 ; -9.68,-1 -3.21,-1 ; -9.68,-0.886 -3.21,-0.886 ; -9.68,-0.772 -3.21,-0.772 ; -9.68,-0.658 -3.21,-0.658 ; -9.68,-0.544 -3.21,-0.544 ; -9.68,-0.429 -3.21,-0.429 ; -9.68,-0.315 -3.21,-0.315 ; -9.68,-0.201 -3.21,-0.201 ; -9.68,-0.087 -3.21,-0.087 ; -9.68,0.027 -3.21,0.027 ; -9.68,0.141 -3.21,0.141 ; -9.68,0.255 -3.21,0.255 ; -9.68,0.369 -3.21,0.369 ; -9.68,0.484 -3.21,0.484 ; -9.68,0.598 -3.21,0.598 ; -9.68,0.712 -3.21,0.712 ; -9.68,0.826 -3.21,0.826 ; -9.68,0.94 -3.21,0.94 ; -3.21,-30.36 -2.863,-30.36 ; -3.21,-29.64 -2.863,-29.64 ; -3.21,-28.36 -2.863,-28.36 ; -3.21,-27.64 -2.863,-27.64 ; -3.21,-26.36 -2.863,-26.36 ; -3.21,-25.64 -2.863,-25.64 ; -3.21,-24.36 -2.863,-24.36 ; -3.21,-23.64 -2.863,-23.64 ; -3.21,-22.36 -2.863,-22.36 ; -3.21,-21.64 -2.863,-21.64 ; -3.21,-20.36 -2.863,-20.36 ; -3.21,-19.64 -2.863,-19.64 ; -3.21,-18.36 -2.863,-18.36 ; -3.21,-17.64 -2.863,-17.64 ; -3.21,-16.36 -2.863,-16.36 ; -3.21,-15.64 -2.863,-15.64 ; -3.21,-14.36 -2.863,-14.36 ; -3.21,-13.64 -2.863,-13.64 ; -3.21,-12.36 -2.863,-12.36 ; -3.21,-11.64 -2.863,-11.64 ; -3.21,-10.36 -2.863,-10.36 ; -3.21,-9.64 -2.863,-9.64 ; -3.21,-8.36 -2.863,-8.36 ; -3.21,-7.64 -2.863,-7.64 ; -3.21,-6.36 -2.863,-6.36 ; -3.21,-5.64 -2.863,-5.64 ; -3.21,-4.36 -2.863,-4.36 ; -3.21,-3.64 -2.863,-3.64 ; -3.21,-2.36 -2.863,-2.36 ; -3.21,-1.64 -2.863,-1.64 ; -3.21,-0.36 -2.863,-0.36 ; -3.21,0.36 -2.863,0.36 ; -1.137,-30.36 -0.863,-30.36 ; -1.137,-29.64 -0.863,-29.64 ; -1.137,-28.36 -0.863,-28.36 ; -1.137,-27.64 -0.863,-27.64 ; -1.137,-26.36 -0.863,-26.36 ; -1.137,-25.64 -0.863,-25.64 ; -1.137,-24.36 -0.863,-24.36 ; -1.137,-23.64 -0.863,-23.64 ; -1.137,-22.36 -0.863,-22.36 ; -1.137,-21.64 -0.863,-21.64 ; -1.137,-20.36 -0.863,-20.36 ; -1.137,-19.64 -0.863,-19.64 ; -1.137,-18.36 -0.863,-18.36 ; -1.137,-17.64 -0.863,-17.64 ; -1.137,-16.36 -0.863,-16.36 ; -1.137,-15.64 -0.863,-15.64 ; -1.137,-14.36 -0.863,-14.36 ; -1.137,-13.64 -0.863,-13.64 ; -1.137,-12.36 -0.863,-12.36 ; -1.137,-11.64 -0.863,-11.64 ; -1.137,-10.36 -0.863,-10.36 ; -1.137,-9.64 -0.863,-9.64 ; -1.137,-8.36 -0.863,-8.36 ; -1.137,-7.64 -0.863,-7.64 ; -1.137,-6.36 -0.863,-6.36 ; -1.137,-5.64 -0.863,-5.64 ; -1.137,-4.36 -0.863,-4.36 ; -1.137,-3.64 -0.863,-3.64 ; -1.137,-2.36 -0.863,-2.36 ; -1.137,-1.64 -0.863,-1.64 ; -1.137,-0.36 -0.935,-0.36 ; -1.137,0.36 -0.935,0.36 ; 0,1.06 0.935,1.06 0.935,0 ; -9.68,-31.06 -3.21,-31.06 -3.21,1.06 -9.68,1.06 -9.68,-31.06
Top Assembly:
  lines w0.254: -3.27,-30.3 0,-30.3 0,-29.7 -3.27,-29.7 ; -3.27,-28.3 0,-28.3 0,-27.7 -3.27,-27.7 ; -3.27,-26.3 0,-26.3 0,-25.7 -3.27,-25.7 ; -3.27,-24.3 0,-24.3 0,-23.7 -3.27,-23.7 ; -3.27,-22.3 0,-22.3 0,-21.7 -3.27,-21.7 ; -3.27,-20.3 0,-20.3 0,-19.7 -3.27,-19.7 ; -3.27,-18.3 0,-18.3 0,-17.7 -3.27,-17.7 ; -3.27,-16.3 0,-16.3 0,-15.7 -3.27,-15.7 ; -3.27,-14.3 0,-14.3 0,-13.7 -3.27,-13.7 ; -3.27,-12.3 0,-12.3 0,-11.7 -3.27,-11.7 ; -3.27,-10.3 0,-10.3 0,-9.7 -3.27,-9.7 ; -3.27,-8.3 0,-8.3 0,-7.7 -3.27,-7.7 ; -3.27,-6.3 0,-6.3 0,-5.7 -3.27,-5.7 ; -3.27,-4.3 0,-4.3 0,-3.7 -3.27,-3.7 ; -3.27,-2.3 0,-2.3 0,-1.7 -3.27,-1.7 ; -3.27,-0.3 0,-0.3 0,0.3 -3.27,0.3 ; -3.27,0.3 -3.27,-31 -9.62,-31 -9.62,1 -3.97,1 -3.27,0.3
  text "'.Designator'" at -5.605,-19.047 h1
Top Courtyard:
  lines w0.254: -10.15,-31.5 1.5,-31.5 1.5,1.5 -10.15,1.5 -10.15,-31.5
Top Designator:
  text ".Designator" at -11.943,-15.508 h1.52